# EAGLE library part ATX-24P (library ds_con)
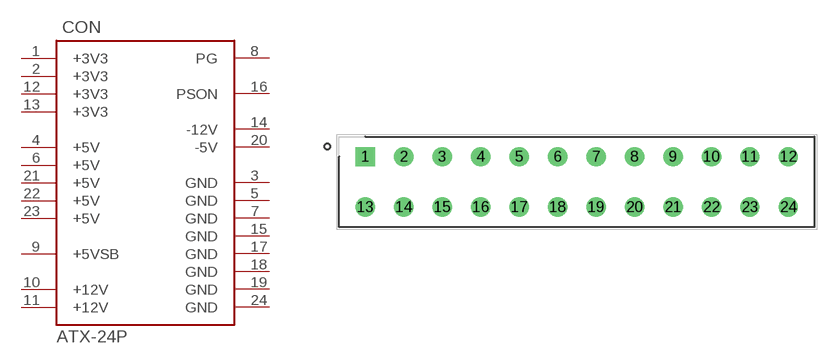
[diagram p15: symbol with the pads of ATX-24P; footprint ATX-24P]

Designator prefix CON

## ATX-24P  [ATX-24P]
1  +3V3  pas
2  +3V3  pas
3  GND  pas
4  +5V  pas
5  GND  pas
6  +5V  pas
7  GND  pas
8  PG  pas
9  +5VSB  pas
10  +12V  pas
11  +12V  pas
12  +3V3  pas
13  +3V3  pas
14  -12V  pas
15  GND  pas
16  PSON  pas
17  GND  pas
18  GND  pas
19  GND  pas
20  -5V  pas
21  +5V  pas
22  +5V  pas
23  +5V  pas
24  GND  pas

## Footprint ATX-24P (pad centres in mm)
drill 1.4 pad 2.1 square: 1 -22.86,2.54
drill 1.4 pad 2.1: 2 -18.66,2.54; 3 -14.46,2.54; 4 -10.26,2.54; 5 -6.06,2.54; 6 -1.86,2.54; 7 2.34,2.54; 8 6.54,2.54; 9 10.74,2.54; 10 14.94,2.54; 11 19.14,2.54; 12 23.34,2.54; 13 -22.86,-2.96; 14 -18.66,-2.96; 15 -14.46,-2.96; 16 -10.26,-2.96; 17 -6.06,-2.96; 18 -1.86,-2.96; 19 2.34,-2.96; 20 6.54,-2.96; 21 10.74,-2.96; 22 14.94,-2.96; 23 19.14,-2.96; 24 23.34,-2.96